# Altium footprint library CHXXX.pcblib: 155 footprints (part 9 of 10)
Each footprint in its own frame and in the unit in brackets; x right, y up, seen from the top. Pads: shape width x height; smd on the part's side, far side on the other; paste and mask are expansions set on the pad; w line width, h text height; cw(c..) or ccw(c..) is an arc to the next point about the centre after c.
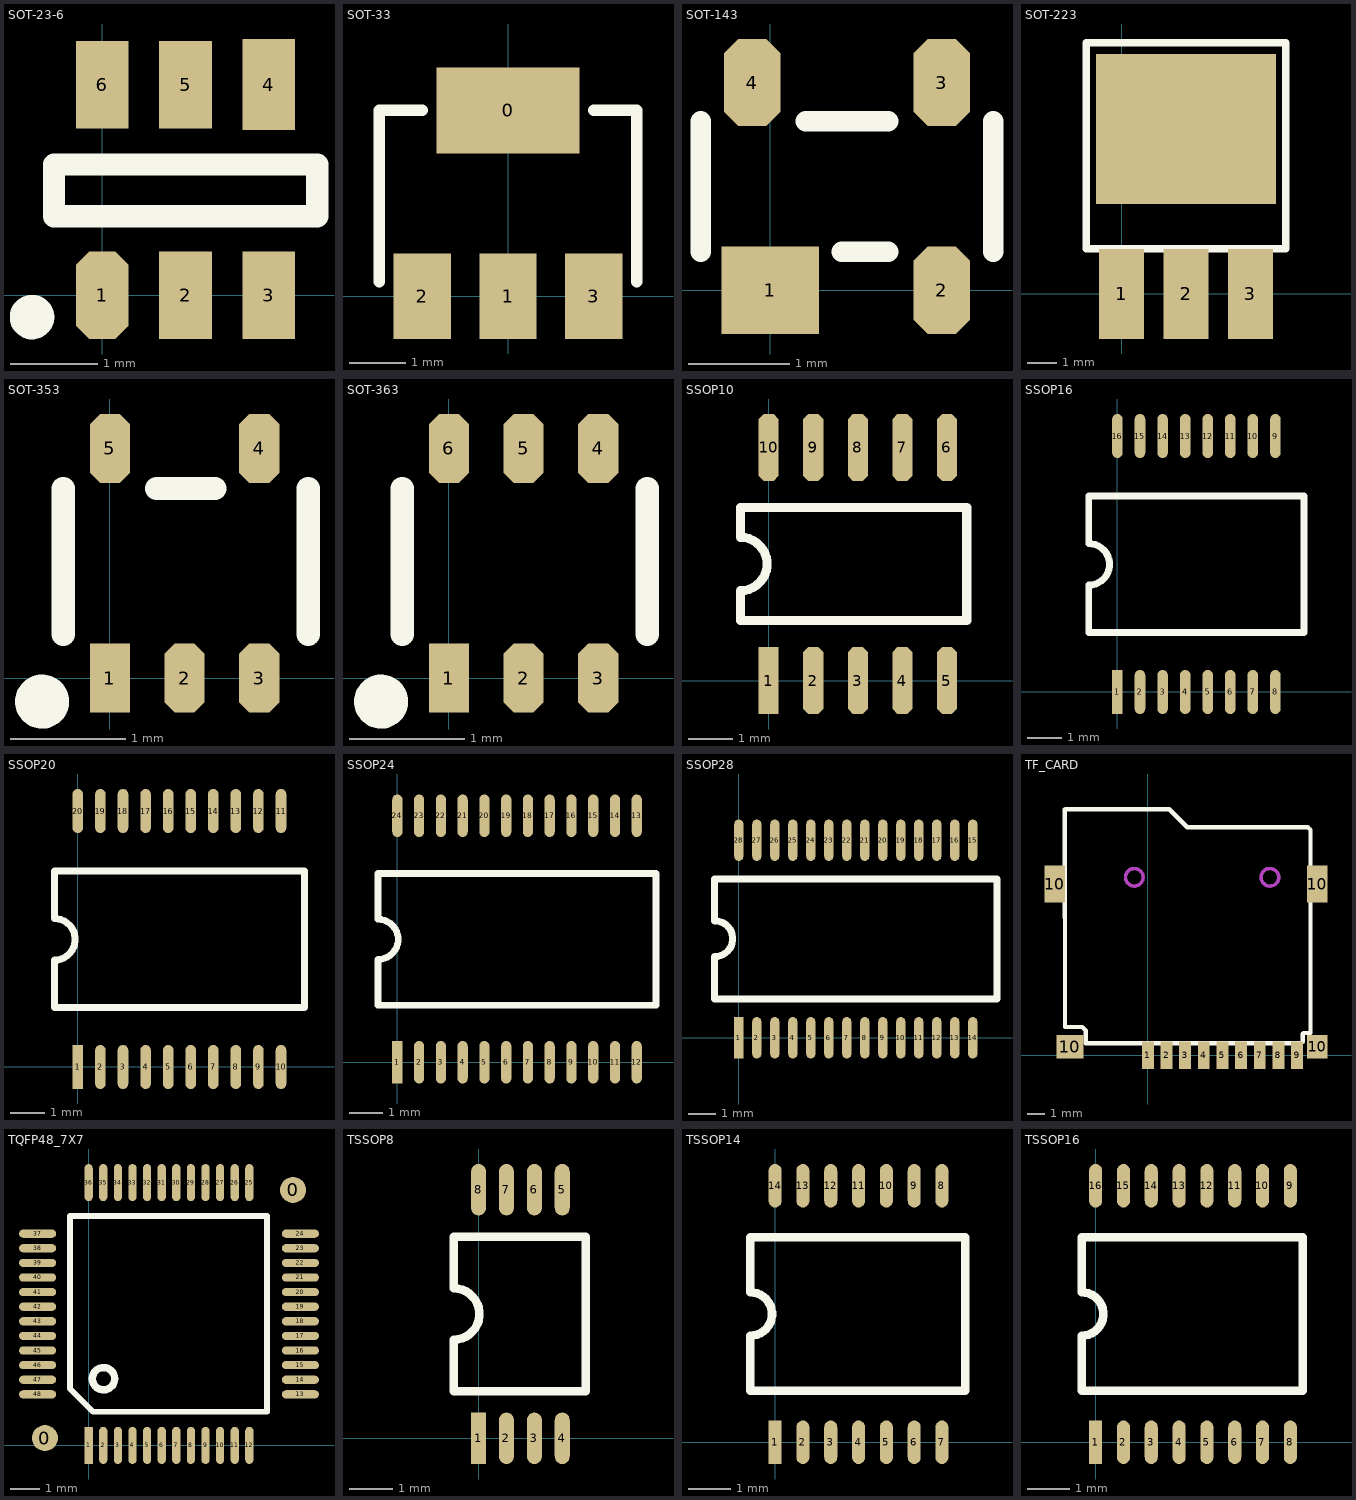
[diagram p8: the footprints below, top view; thin cyan lines are the x and y axes]

## SOT-23-6 [mm] "SOT-23-6"
pads (6):
  oct 0.6x1 smd: 1(0,0)
  rect 0.6x1 smd: 2(0.95,0) 3(1.9,0) 5(0.95,2.4) 6(0,2.4)
  rect 0.6x1.04 smd: 4(1.9,2.4)
TopOverlay:
  circle w0.254: c-0.8,-0.25 r0.127
  lines w0.254: -0.55,0.9 2.45,0.9 2.45,1.49 -0.55,1.49 -0.55,0.9

## SOT-33 [mil]
pads (4):
  rect 100x60 smd: 0(0,130)
  rect 40x60 smd: 1(0,0) 2(-60,0) 3(60,0)
TopOverlay:
  lines w8: -90,10 -90,130 -60,130 ; 60,130 90,130 90,10

## SOT-143 [mil]
pads (4):
  rect 38x34 smd: 1(0,0)
  oct 22x34 smd: 2(67,0) 3(67,81) 4(-7,81)
TopOverlay:
  lines w8: -27,15 -27,66 ; 14,66 46,66 ; 28,15 46,15 ; 87,15 87,66

## SOT-223 [mil]
pads (4):
  rect 60x120 smd: 1(0,0) 2(86,0) 3(172,0)
  rect 240x200 smd: ""(86,220)
TopOverlay:
  lines w10: -47,60 -47,335 219,335 219,60 -47,60

## SOT-353 [mm]
pads (5):
  rect 0.35x0.6 smd mask+0.051: 1(0,0)
  oct 0.35x0.6 smd mask+0.051: 2(0.65,0) 3(1.3,0) 4(1.3,2) 5(0,2)
TopOverlay:
  circle w0.254: c-0.59,-0.205 r0.108
  lines w0.203: -0.406,0.381 -0.406,1.651 ; 0.406,1.651 0.914,1.651 ; 1.727,0.381 1.727,1.651

## SOT-363 [mm]
pads (6):
  rect 0.35x0.6 smd mask+0.051: 1(0,0)
  oct 0.35x0.6 smd mask+0.051: 2(0.65,0) 3(1.3,0) 4(1.3,2) 5(0.65,2) 6(0,2)
TopOverlay:
  circle w0.254: c-0.59,-0.205 r0.108
  lines w0.203: -0.406,0.381 -0.406,1.651 ; 1.727,0.381 1.727,1.651

## SSOP10 [mm]
pads (10):
  rect 0.45x1.5 smd: 1(0,0)
  oct 0.45x1.5 smd: 2(1,0) 3(2,0) 4(3,0) 5(4,0) 6(4,5.232) 7(3,5.232) 8(2,5.232) 9(1,5.232) 10(0,5.232)
TopOverlay:
  lines w0.203: -0.635,1.346 -0.635,2.016 ccw(c-0.635,2.616) -0.635,3.216 -0.635,3.886 4.445,3.886 4.445,1.346 -0.635,1.346

## SSOP16 [mil]
pads (16):
  rect 12x50 smd: 1(0,0)
  oval 12x50 smd: 2(25.6,0) 3(51.2,0) 4(76.8,0) 5(102.4,0) 6(128,0) 7(153.5,0) 8(179.1,0) 9(179.1,290) 10(153.5,290) 11(128,290) 12(102.4,290) 13(76.8,290) 14(51.2,290) 15(25.6,290) 16(0,290)
TopOverlay:
  lines w7.87: -32.48,67.24 211.61,67.24 211.61,221.97 -32.48,221.97 -32.48,168.23 cw(c-32.48,144.61) -32.48,120.98 -32.48,67.24

## SSOP20 [mil]
pads (20):
  rect 12x50 smd: 1(0,0)
  oval 12x50 smd: 2(25.6,0) 3(51.2,0) 4(76.8,0) 5(102.4,0) 6(128,0) 7(153.5,0) 8(179.1,0) 9(204.7,0) 10(230.3,0) 11(230.3,290) 12(204.7,290) 13(179.1,290) 14(153.5,290) 15(128,290) 16(102.4,290) 17(76.8,290) 18(51.2,290) 19(25.6,290) 20(0,290)
TopOverlay:
  lines w7.87: -26.57,67.24 -26.57,120.98 ccw(c-26.57,144.61) -26.57,168.23 -26.57,221.97 256.89,221.97 256.89,67.24 -26.57,67.24

## SSOP24 [mil]
pads (24):
  rect 12x50 smd: 1(0,0)
  oval 12x50 smd: 2(25.6,0) 3(51.2,0) 4(76.8,0) 5(102.4,0) 6(128,0) 7(153.5,0) 8(179.1,0) 9(204.7,0) 10(230.3,0) 11(256,0) 12(281.5,0) 13(281.5,290) 14(256,290) 15(230.3,290) 16(204.7,290) 17(179.1,290) 18(153.5,290) 19(128,290) 20(102.4,290) 21(76.8,290) 22(51.2,290) 23(25.6,290) 24(0,290)
TopOverlay:
  lines w7.87: -22.64,67.24 -22.64,120.98 ccw(c-22.64,144.61) -22.64,168.23 -22.64,221.97 304.13,221.97 304.13,67.24 -22.64,67.24

## SSOP28 [mm]
pads (28):
  rect 0.33x1.5 smd: 1(0,0)
  oval 0.33x1.5 smd: 2(0.65,0) 3(1.3,0) 4(1.95,0) 5(2.6,0) 6(3.25,0) 7(3.9,0) 8(4.55,0) 9(5.2,0) 10(5.85,0) 11(6.5,0) 12(7.15,0) 13(7.8,0) 14(8.45,0) 15(8.45,7.136) 16(7.8,7.136) 17(7.15,7.136) 18(6.5,7.136) 19(5.85,7.136) 20(5.2,7.136) 21(4.55,7.136) 22(3.9,7.136) 23(3.25,7.136) 24(2.6,7.136) 25(1.95,7.136) 26(1.3,7.136) 27(0.65,7.136) 28(0,7.136)
TopOverlay:
  lines w0.254: -0.875,4.223 -0.875,5.727 9.325,5.727 9.325,1.409 -0.875,1.409 -0.875,2.933 ccw(c-0.865,3.578) -0.872,4.223

## TF_CARD [mm]
pads (13):
  rect 0.7x1.6 smd: 1(0,0) 2(1.1,0) 3(2.2,0) 4(3.3,0) 5(4.4,0) 6(5.5,0) 7(6.6,0) 8(7.7,0) 9(8.8,0)
  rect 1.2x2.2 smd: 10(-5.5,10.1) 10(10,10.1)
  rect 1.6x1.4 smd: 10(-4.6,0.5)
  rect 1.2x1.4 smd: 10(10,0.5)
TopOverlay:
  lines w0.254: -4.9,14.5 -4.884,1.667 -3.868,1.667 -3.665,1.464 -3.665,0.702 9.035,0.702 9.136,0.804 9.136,1.261 9.187,1.312 9.594,1.312 ; -4.88,14.52 1.262,14.52 2.329,13.453 9.441,13.453 9.543,13.351 ; 9.594,1.313 9.594,13.302
KeepOutLayer:
  circle w0.2: c7.2,10.5 r0.52
  circle w0.2: c-0.8,10.5 r0.52
Mechanical1:
  circle w0.2: c7.2,10.5 r0.52
  circle w0.2: c-0.8,10.5 r0.52

## TQFP48_7X7 [mm]
pads (50):
  round 0.889 smd: 0(-1.496,0.254) 0(6.996,8.746)
  rect 0.28x1.27 smd mask+0.051: 1(0,0)
  oval 0.28x1.27 smd mask+0.051: 2(0.5,0) 3(1,0) 4(1.5,0) 5(2,0) 6(2.5,0) 7(3,0) 8(3.5,0) 9(4,0) 10(4.5,0) 11(5,0) 12(5.5,0) 25(5.5,9) 26(5,9) 27(4.5,9) 28(4,9) 29(3.5,9) 30(3,9) 31(2.5,9) 32(2,9) 33(1.5,9) 34(1,9) 35(0.5,9) 36(0,9)
  oval 1.27x0.28 smd mask+0.051: 13(7.25,1.75) 14(7.25,2.25) 15(7.25,2.75) 16(7.25,3.25) 17(7.25,3.75) 18(7.25,4.25) 19(7.25,4.75) 20(7.25,5.25) 21(7.25,5.75) 22(7.25,6.25) 23(7.25,6.75) 24(7.25,7.25) 37(-1.75,7.25) 38(-1.75,6.75) 39(-1.75,6.25) 40(-1.75,5.75) 41(-1.75,5.25) 42(-1.75,4.75) 43(-1.75,4.25) 44(-1.75,3.75) 45(-1.75,3.25) 46(-1.75,2.75) 47(-1.75,2.25) 48(-1.75,1.75)
TopOverlay:
  circle w0.254: c0.508,2.286 r0.381
  lines w0.2: -0.646,1.947 0.148,1.154
  lines w0.203: -0.646,1.947 -0.646,7.859 6.111,7.859 6.111,1.154 0.148,1.154

## TSSOP8 [mm]
pads (8):
  rect 0.35x1.2 smd mask+0.051: 1(0,0)
  oval 0.35x1.2 smd mask+0.051: 2(0.65,0) 3(1.3,0) 4(1.951,0) 5(1.951,5.794) 6(1.3,5.794) 7(0.65,5.794) 8(0,5.794)
TopOverlay:
  lines w0.2: -0.579,1.1 -0.579,2.297 ccw(c-0.579,2.897) -0.579,3.497 -0.579,4.694 2.497,4.694 2.497,1.1 -0.579,1.1

## TSSOP14 [mil]
pads (14):
  rect 12x40 smd: 1(0,0)
  oval 12x40 smd: 2(25.6,0) 3(51.2,0) 4(76.8,0) 5(102.4,0) 6(128,0) 7(153.5,0) 8(153.5,236) 9(128,236) 10(102.4,236) 11(76.8,236) 12(51.2,236) 13(25.6,236) 14(0,236)
TopOverlay:
  lines w7.87: -22.8,47.24 175.11,47.24 175.11,188.76 -22.8,188.76 -22.8,138 cw(c-22.8,118) -22.8,98 -22.8,47.24

## TSSOP16 [mil]
pads (16):
  rect 12x40 smd: 1(0,0)
  oval 12x40 smd: 2(25.6,0) 3(51.2,0) 4(76.8,0) 5(102.4,0) 6(128,0) 7(153.5,0) 8(179.1,0) 9(179.1,236) 10(153.5,236) 11(128,236) 12(102.4,236) 13(76.8,236) 14(51.2,236) 15(25.6,236) 16(0,236)
TopOverlay:
  lines w7.87: -12.79,47.24 -12.79,98 ccw(c-12.79,118) -12.79,138 -12.79,188.76 190.71,188.76 190.71,47.24 -12.79,47.24